# Altium schematic symbol library aiskylab-02Cap-02Tan_SMT.SchLib: 8 symbols
Pins are listed as number, name and electrical type; pins without a type are passive.

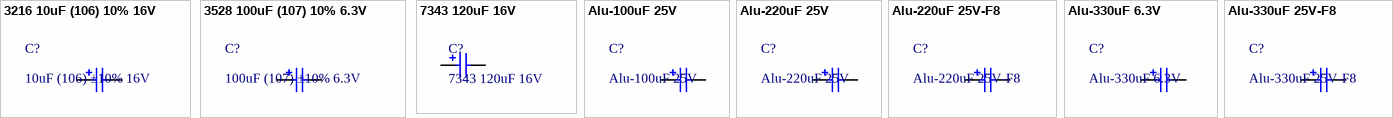
[diagram p0: symbols 3216 10uF (106) 10% 16V to Alu-330uF 25V-F8]

## 3216 10uF (106) 10% 16V
designator C?, comment 10uF (106) ±10% 16V
钽电容; ComponentLink1Description: 供应商链接; ComponentLink1URL: http://www.szlcsc.com/product/details_7643.html; Package: 3216; Supplier: LC; SuppliersPartNumber: C7171
footprint CASE-A_3216
pins: 1, 2

## 3528 100uF (107) 10% 6.3V
designator C?, comment 100uF (107) ±10% 6.3V
钽电容; ComponentLink1Description: 供应商链接; ComponentLink1URL: http://www.szlcsc.com/product/details_16815.html; Package: 3528; Supplier: LC; SuppliersPartNumber: C16133
footprint CASE-B_3528
pins: 1, 2

## 7343 120uF 16V
designator C?
聚合物电容
footprint 7343_Tan_Black
pins: 1, 2

## Alu-100uF 25V
designator C?
贴片铝电解电容; ComponentLink1Description: 供应商链接; ComponentLink1URL: https://item.szlcsc.com/3729.html; Package: SMD,6.3x7.7mm; Supplier: LC; SuppliersPartNumber: C3338; ComponentLink2Description: Datasheet; ComponentLink2URL: https://atta.szlcsc.com/upload/public/pdf/source/20160816/1471342948700.pdf
footprint SMD-EC-F6.3
pins: 1, 2

## Alu-220uF 25V
designator C?
贴片铝电解电容; ComponentLink1Description: 供应商链接; ComponentLink1URL: https://item.szlcsc.com/345306.html; Package: SMD,6.3x7.7mm; Supplier: LC; SuppliersPartNumber: C371974; ComponentLink2Description: Datasheet; ComponentLink2URL: https://atta.szlcsc.com/upload/public/pdf/source/20190313/C371974_B8C294ED442C47781FB3637FF46B9581.pdf
footprint SMD-EC-F6.3
pins: 1, 2

## Alu-220uF 25V-F8
designator C?
贴片铝电解电容 8x10.2mm; ComponentLink1Description: 供应商链接; ComponentLink1URL: https://item.szlcsc.com/430227.html; Package: SMD,8x10.2mm; Supplier: LC; SuppliersPartNumber: C371974; ComponentLink2Description: Datasheet; ComponentLink2URL: https://atta.szlcsc.com/upload/public/pdf/source/20191008/C433299_BF0078E27B9DA48549195598248CF336.pdf
footprint SMD-EC-F8
pins: 1, 2

## Alu-330uF 6.3V
designator C?
贴片铝电解电容; ComponentLink1Description: 供应商链接; ComponentLink1URL: https://atta.szlcsc.com/upload/public/pdf/source/20160816/1471343001130.pdf; Package: SMD,6.3x7.7mm; Supplier: LC; SuppliersPartNumber: C58276
footprint SMD-EC-F6.3
pins: 1, 2

## Alu-330uF 25V-F8
designator C?
贴片铝电解电容 8*10.2mm; ComponentLink1Description: Datasheet; ComponentLink1URL: https://atta.szlcsc.com/upload/public/pdf/source/20190821/C413509_4599820410CA154E457668A7BEB3DBF8.pdf; Package: SMD,8*10.2mm; Supplier: LC; SuppliersPartNumber: C413509; ComponentLink2Description: 供应商链接; ComponentLink2URL: https://item.szlcsc.com/405637.html
footprint SMD-EC-F8
pins: 1, 2